# Altium schematic symbol library 2512 25mOhm.Schlib: 1 symbol
Pins are listed as number, name and electrical type; pins without a type are passive.

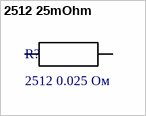
[diagram p0: symbol 2512 25mOhm]

## 2512 25mOhm
designator R?, comment 2512 0.025 Ом
Resistor
pins: 1, 2